# Altium footprint library Connectors.PcbLib: 9 footprints
Each footprint in its own frame and in the unit in brackets; x right, y up, seen from the top. Pads: shape width x height; smd on the part's side, far side on the other; paste and mask are expansions set on the pad; w line width, h text height; cw(c..) or ccw(c..) is an arc to the next point about the centre after c.
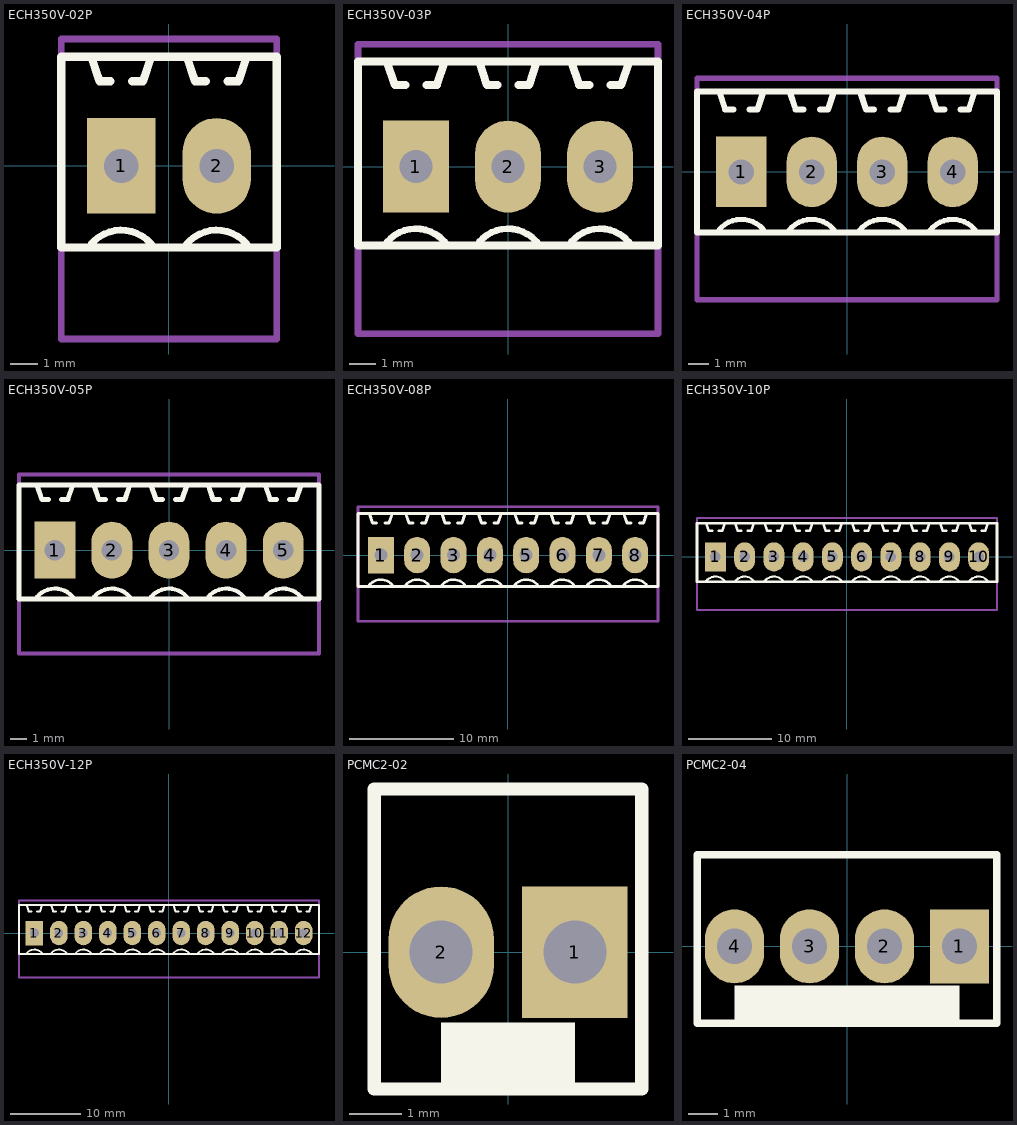
[diagram p0: the footprints below, top view; thin cyan lines are the x and y axes]

## ECH350V-02P [mm]
pads (2):
  rect 2.5x3.5 hole 1.25: 1(-1.75,0)
  oval 2.5x3.5 hole 1.25: 2(1.75,0)
Top Overlay:
  lines w0.254: -2.866,-2.887 cw(c-1.75,-3.8) -0.55,-3 ; 0.634,-2.887 cw(c1.75,-3.8) 2.95,-3
  lines w0.3: -2.85,4 -2.55,3.1 -2.15,3.1 ; -1.35,3.1 -0.95,3.1 -0.65,4 ; 0.65,4 0.95,3.1 1.35,3.1 ; 2.15,3.1 2.55,3.1 2.85,4 ; -3.95,-3 3.95,-3 3.95,4 -3.95,4 -3.95,-3
Mechanical 1:
  lines w0.254: -3.95,-6.35 3.95,-6.35 3.95,4.65 -3.95,4.65 -3.95,-6.35
3D body: height 9.21, standoff -3.39, extent -3.9,-3 3.9,4.2

## ECH350V-03P [mm]
pads (3):
  rect 2.5x3.5 hole 1.25: 1(-3.5,0)
  oval 2.5x3.5 hole 1.25: 2(0,0) 3(3.5,0)
Top Overlay:
  lines w0.254: -4.616,-2.887 cw(c-3.5,-3.8) -2.3,-3 ; -1.116,-2.887 cw(c0,-3.8) 1.2,-3 ; 2.384,-2.887 cw(c3.5,-3.8) 4.7,-3
  lines w0.3: -4.6,4 -4.3,3.1 -3.9,3.1 ; -3.1,3.1 -2.7,3.1 -2.4,4 ; -1.1,4 -0.8,3.1 -0.4,3.1 ; 0.4,3.1 0.8,3.1 1.1,4 ; 2.4,4 2.7,3.1 3.1,3.1 ; 3.9,3.1 4.3,3.1 4.6,4 ; -5.7,-3 5.7,-3 5.7,4 -5.7,4 -5.7,-3
Mechanical 1:
  lines w0.254: -5.7,-6.35 5.7,-6.35 5.7,4.65 -5.7,4.65 -5.7,-6.35
3D body: height 9.21, standoff -3.39, extent -5.65,-3 5.65,4.2

## ECH350V-04P [mm]
pads (4):
  rect 2.5x3.5 hole 1.25: 1(-5.25,0)
  oval 2.5x3.5 hole 1.25: 2(-1.75,0) 3(1.75,0) 4(5.25,0)
Top Overlay:
  lines w0.254: -6.366,-2.887 cw(c-5.25,-3.8) -4.05,-3 ; -2.866,-2.887 cw(c-1.75,-3.8) -0.55,-3 ; 0.634,-2.887 cw(c1.75,-3.8) 2.95,-3 ; 4.134,-2.887 cw(c5.25,-3.8) 6.45,-3
  lines w0.3: -6.35,4 -6.05,3.1 -5.65,3.1 ; -4.85,3.1 -4.45,3.1 -4.15,4 ; -2.85,4 -2.55,3.1 -2.15,3.1 ; -1.35,3.1 -0.95,3.1 -0.65,4 ; 0.65,4 0.95,3.1 1.35,3.1 ; 2.15,3.1 2.55,3.1 2.85,4 ; 4.15,4 4.45,3.1 4.85,3.1 ; 5.65,3.1 6.05,3.1 6.35,4 ; -7.45,-3 -7.45,4 7.45,4 7.45,-3 -7.45,-3
Mechanical 1:
  lines w0.254: -7.45,-6.35 7.45,-6.35 7.45,4.65 -7.45,4.65 -7.45,-6.35
3D body: height 9.21, standoff -3.39, extent -7.4,-3 7.4,4.2

## ECH350V-05P [mm]
pads (5):
  rect 2.5x3.5 hole 1.25: 1(-7,0)
  oval 2.5x3.5 hole 1.25: 2(-3.5,0) 3(0,0) 4(3.5,0) 5(7,0)
Top Overlay:
  lines w0.254: -8.116,-2.887 cw(c-7,-3.8) -5.8,-3 ; -4.616,-2.887 cw(c-3.5,-3.8) -2.3,-3 ; -1.116,-2.887 cw(c0,-3.8) 1.2,-3 ; 2.384,-2.887 cw(c3.5,-3.8) 4.7,-3 ; 5.884,-2.887 cw(c7,-3.8) 8.2,-3
  lines w0.3: -8.1,4 -7.8,3.1 -7.4,3.1 ; -6.6,3.1 -6.2,3.1 -5.9,4 ; -4.6,4 -4.3,3.1 -3.9,3.1 ; -3.1,3.1 -2.7,3.1 -2.4,4 ; -1.1,4 -0.8,3.1 -0.4,3.1 ; 0.4,3.1 0.8,3.1 1.1,4 ; 2.4,4 2.7,3.1 3.1,3.1 ; 3.9,3.1 4.3,3.1 4.6,4 ; 5.9,4 6.2,3.1 6.6,3.1 ; 7.4,3.1 7.8,3.1 8.1,4 ; -9.2,-3 -9.2,4 9.2,4 9.2,-3 -9.2,-3
Mechanical 1:
  lines w0.254: -9.2,-6.35 9.2,-6.35 9.2,4.65 -9.2,4.65 -9.2,-6.35
3D body: height 9.21, standoff -3.39, extent -9.15,-3 9.15,4.2

## ECH350V-08P [mm]
pads (8):
  rect 2.5x3.5 hole 1.25: 1(-12.25,0)
  oval 2.5x3.5 hole 1.25: 2(-8.75,0) 3(-5.25,0) 4(-1.75,0) 5(1.75,0) 6(5.25,0) 7(8.75,0) 8(12.25,0)
Top Overlay:
  lines w0.254: -13.366,-2.887 cw(c-12.25,-3.8) -11.05,-3 ; -9.866,-2.887 cw(c-8.75,-3.8) -7.55,-3 ; -6.366,-2.887 cw(c-5.25,-3.8) -4.05,-3 ; -2.866,-2.887 cw(c-1.75,-3.8) -0.55,-3 ; 0.634,-2.887 cw(c1.75,-3.8) 2.95,-3 ; 4.134,-2.887 cw(c5.25,-3.8) 6.45,-3 ; 7.634,-2.887 cw(c8.75,-3.8) 9.95,-3 ; 11.134,-2.887 cw(c12.25,-3.8) 13.45,-3
  lines w0.3: -13.35,4 -13.05,3.1 -12.65,3.1 ; -11.85,3.1 -11.45,3.1 -11.15,4 ; -9.85,4 -9.55,3.1 -9.15,3.1 ; -8.35,3.1 -7.95,3.1 -7.65,4 ; -6.35,4 -6.05,3.1 -5.65,3.1 ; -4.85,3.1 -4.45,3.1 -4.15,4 ; -2.85,4 -2.55,3.1 -2.15,3.1 ; -1.35,3.1 -0.95,3.1 -0.65,4 ; 0.65,4 0.95,3.1 1.35,3.1 ; 2.15,3.1 2.55,3.1 2.85,4 ; 4.15,4 4.45,3.1 4.85,3.1 ; 5.65,3.1 6.05,3.1 6.35,4 ; 7.65,4 7.95,3.1 8.35,3.1 ; 9.15,3.1 9.55,3.1 9.85,4 ; 11.15,4 11.45,3.1 11.85,3.1 ; 12.65,3.1 13.05,3.1 13.35,4 ; -14.45,-3 14.45,-3 14.45,4 -14.45,4 -14.45,-3
Mechanical 1:
  lines w0.254: -14.45,-6.35 -14.45,4.65 14.45,4.65 14.45,-6.35 -14.45,-6.35
3D body: height 9.21, standoff -3.39, extent -14.4,-3 14.4,4.2

## ECH350V-10P [mm]
pads (10):
  rect 2.5x3.5 hole 1.25: 1(-15.75,0)
  oval 2.5x3.5 hole 1.25: 2(-12.25,0) 3(-8.75,0) 4(-5.25,0) 5(-1.75,0) 6(1.75,0) 7(5.25,0) 8(8.75,0) 9(12.25,0) 10(15.75,0)
Top Overlay:
  lines w0.254: -16.866,-2.887 cw(c-15.75,-3.8) -14.55,-3 ; -13.366,-2.887 cw(c-12.25,-3.8) -11.05,-3 ; -9.866,-2.887 cw(c-8.75,-3.8) -7.55,-3 ; -6.366,-2.887 cw(c-5.25,-3.8) -4.05,-3 ; -2.866,-2.887 cw(c-1.75,-3.8) -0.55,-3 ; 0.634,-2.887 cw(c1.75,-3.8) 2.95,-3 ; 4.134,-2.887 cw(c5.25,-3.8) 6.45,-3 ; 7.634,-2.887 cw(c8.75,-3.8) 9.95,-3 ; 11.134,-2.887 cw(c12.25,-3.8) 13.45,-3 ; 14.634,-2.887 cw(c15.75,-3.8) 16.95,-3
  lines w0.3: -16.85,4 -16.55,3.1 -16.15,3.1 ; -15.35,3.1 -14.95,3.1 -14.65,4 ; -13.35,4 -13.05,3.1 -12.65,3.1 ; -11.85,3.1 -11.45,3.1 -11.15,4 ; -9.85,4 -9.55,3.1 -9.15,3.1 ; -8.35,3.1 -7.95,3.1 -7.65,4 ; -6.35,4 -6.05,3.1 -5.65,3.1 ; -4.85,3.1 -4.45,3.1 -4.15,4 ; -2.85,4 -2.55,3.1 -2.15,3.1 ; -1.35,3.1 -0.95,3.1 -0.65,4 ; 0.65,4 0.95,3.1 1.35,3.1 ; 2.15,3.1 2.55,3.1 2.85,4 ; 4.15,4 4.45,3.1 4.85,3.1 ; 5.65,3.1 6.05,3.1 6.35,4 ; 7.65,4 7.95,3.1 8.35,3.1 ; 9.15,3.1 9.55,3.1 9.85,4 ; 11.15,4 11.45,3.1 11.85,3.1 ; 12.65,3.1 13.05,3.1 13.35,4 ; 14.65,4 14.95,3.1 15.35,3.1 ; 16.15,3.1 16.55,3.1 16.85,4 ; -17.95,-3 -17.95,4 17.95,4 17.95,-3 -17.95,-3
Mechanical 1:
  lines w0.254: -17.95,-6.35 17.95,-6.35 17.95,4.65 -17.95,4.65 -17.95,-6.35
3D body: height 9.21, standoff -3.39, extent -17.9,-3 17.9,4.2

## ECH350V-12P [mm]
pads (12):
  rect 2.5x3.5 hole 1.25: 1(-19.25,0)
  oval 2.5x3.5 hole 1.25: 2(-15.75,0) 3(-12.25,0) 4(-8.75,0) 5(-5.25,0) 6(-1.75,0) 7(1.75,0) 8(5.25,0) 9(8.75,0) 10(12.25,0) 11(15.75,0) 12(19.25,0)
Top Overlay:
  lines w0.254: -20.366,-2.887 cw(c-19.25,-3.8) -18.05,-3 ; -16.866,-2.887 cw(c-15.75,-3.8) -14.55,-3 ; -13.366,-2.887 cw(c-12.25,-3.8) -11.05,-3 ; -9.866,-2.887 cw(c-8.75,-3.8) -7.55,-3 ; -6.366,-2.887 cw(c-5.25,-3.8) -4.05,-3 ; -2.866,-2.887 cw(c-1.75,-3.8) -0.55,-3 ; 0.634,-2.887 cw(c1.75,-3.8) 2.95,-3 ; 4.134,-2.887 cw(c5.25,-3.8) 6.45,-3 ; 7.634,-2.887 cw(c8.75,-3.8) 9.95,-3 ; 11.134,-2.887 cw(c12.25,-3.8) 13.45,-3 ; 14.634,-2.887 cw(c15.75,-3.8) 16.95,-3 ; 18.134,-2.887 cw(c19.25,-3.8) 20.45,-3
  lines w0.3: -20.35,4 -20.05,3.1 -19.65,3.1 ; -18.85,3.1 -18.45,3.1 -18.15,4 ; -16.85,4 -16.55,3.1 -16.15,3.1 ; -15.35,3.1 -14.95,3.1 -14.65,4 ; -13.35,4 -13.05,3.1 -12.65,3.1 ; -11.85,3.1 -11.45,3.1 -11.15,4 ; -9.85,4 -9.55,3.1 -9.15,3.1 ; -8.35,3.1 -7.95,3.1 -7.65,4 ; -6.35,4 -6.05,3.1 -5.65,3.1 ; -4.85,3.1 -4.45,3.1 -4.15,4 ; -2.85,4 -2.55,3.1 -2.15,3.1 ; -1.35,3.1 -0.95,3.1 -0.65,4 ; 0.65,4 0.95,3.1 1.35,3.1 ; 2.15,3.1 2.55,3.1 2.85,4 ; 4.15,4 4.45,3.1 4.85,3.1 ; 5.65,3.1 6.05,3.1 6.35,4 ; 7.65,4 7.95,3.1 8.35,3.1 ; 9.15,3.1 9.55,3.1 9.85,4 ; 11.15,4 11.45,3.1 11.85,3.1 ; 12.65,3.1 13.05,3.1 13.35,4 ; 14.65,4 14.95,3.1 15.35,3.1 ; 16.15,3.1 16.55,3.1 16.85,4 ; 18.15,4 18.45,3.1 18.85,3.1 ; 19.65,3.1 20.05,3.1 20.35,4 ; -21.45,-3 21.45,-3 21.45,4 -21.45,4 -21.45,-3
Mechanical 1:
  lines w0.254: -21.45,-6.35 -21.45,4.65 21.45,4.65 21.45,-6.35 -21.45,-6.35
3D body: height 9.21, standoff -3.39, extent -21.451,-3.023 21.349,4.177

## PCMC2-02 [mm] "2.54mm pitch; wire to board connector; 2 Position; 180°"
height 11.4
pads (2):
  rect 2x2.5 hole 1.2: 1(1.27,0)
  oval 2x2.5 hole 1.2: 2(-1.27,0)
Top Overlay:
  region: -1.27,-1.34 1.27,-1.34 1.27,-2.6 -1.27,-2.6
  lines w0.254: -2.54,-2.6 -2.54,3.1 2.54,3.1 2.54,-2.6 -2.54,-2.6
3D body: height 11.65, standoff -3.35, extent -2.67,-2.718 2.67,3.182

## PCMC2-04 [mm] "2.54mm pitch; wire to board connector; 4 Position; 180°"
height 11.4
pads (4):
  rect 2x2.5 hole 1.2: 1(3.81,0)
  oval 2x2.5 hole 1.2: 2(1.27,0) 3(-1.27,0) 4(-3.81,0)
Top Overlay:
  region: -3.81,-1.33 -3.81,-2.59 3.81,-2.59 3.81,-1.33
  lines w0.254: -5.08,-2.6 5.08,-2.6 5.08,3.1 -5.08,3.1 -5.08,-2.6
3D body: height 11.4, standoff -3.6, extent -5.337,-2.725 5.083,3.175